# EAGLE library part F5504/5/6/7---RGZ48 (library MSP430F5xxx)
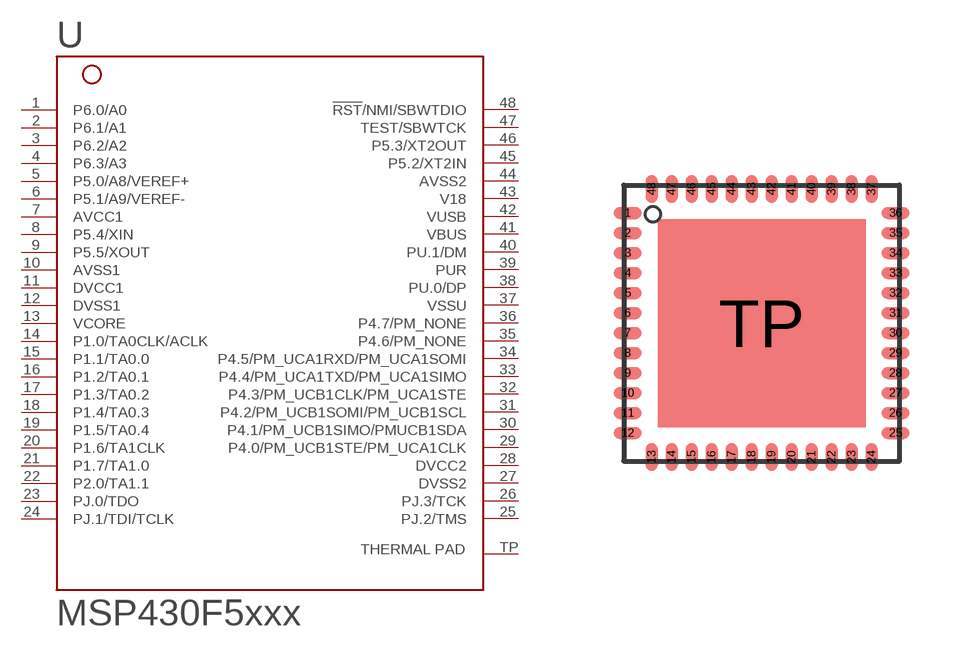
[diagram p1: symbol with the pads of RGZ48; footprint RGZ48]

Designator prefix -

## F5504/5/6/7---RGZ48  [RGZ48]
1  P6.0/A0
2  P6.1/A1
3  P6.2/A2
4  P6.3/A3
5  P5.0/A8/VEREF+
6  P5.1/A9/VEREF-
7  AVCC1  pwr
8  P5.4/XIN
9  P5.5/XOUT
10  AVSS1  pwr
11  DVCC1  pwr
12  DVSS1  pwr
13  VCORE  pwr
14  P1.0/TA0CLK/ACLK
15  P1.1/TA0.0
16  P1.2/TA0.1
17  P1.3/TA0.2
18  P1.4/TA0.3
19  P1.5/TA0.4
20  P1.6/TA1CLK
21  P1.7/TA1.0
22  P2.0/TA1.1
23  PJ.0/TDO
24  PJ.1/TDI/TCLK
25  PJ.2/TMS
26  PJ.3/TCK
27  DVSS2  pwr
28  DVCC2  pwr
29  P4.0/PM_UCB1STE/PM_UCA1CLK
30  P4.1/PM_UCB1SIMO/PMUCB1SDA
31  P4.2/PM_UCB1SOMI/PM_UCB1SCL
32  P4.3/PM_UCB1CLK/PM_UCA1STE
33  P4.4/PM_UCA1TXD/PM_UCA1SIMO
34  P4.5/PM_UCA1RXD/PM_UCA1SOMI
35  P4.6/PM_NONE
36  P4.7/PM_NONE
37  VSSU  pwr
38  PU.0/DP
39  PUR
40  PU.1/DM
41  VBUS  pwr
42  VUSB  pwr
43  V18  pwr
44  AVSS2  pwr
45  P5.2/XT2IN
46  P5.3/XT2OUT
47  TEST/SBWTCK
48  !RST!/NMI/SBWTDIO
TP  TP  pwr

## Footprint RGZ48 (pad centres in mm)
smd 0.7 x 0.3: 1 -3.35,2.75; 2 -3.35,2.25; 3 -3.35,1.75; 4 -3.35,1.25; 5 -3.35,0.75; 6 -3.35,0.25; 7 -3.35,-0.25; 8 -3.35,-0.75; 9 -3.35,-1.25; 10 -3.35,-1.75; 11 -3.35,-2.25; 12 -3.35,-2.75; 25 3.35,-2.75; 26 3.35,-2.25; 27 3.35,-1.75; 28 3.35,-1.25; 29 3.35,-0.75; 30 3.35,-0.25; 31 3.35,0.25; 32 3.35,0.75; 33 3.35,1.25; 34 3.35,1.75; 35 3.35,2.25; 36 3.35,2.75
smd 0.3 x 0.7: 13 -2.75,-3.35; 14 -2.25,-3.35; 15 -1.75,-3.35; 16 -1.25,-3.35; 17 -0.75,-3.35; 18 -0.25,-3.35; 19 0.25,-3.35; 20 0.75,-3.35; 21 1.25,-3.35; 22 1.75,-3.35; 23 2.25,-3.35; 24 2.75,-3.35; 37 2.75,3.35; 38 2.25,3.35; 39 1.75,3.35; 40 1.25,3.35; 41 0.75,3.35; 42 0.25,3.35; 43 -0.25,3.35; 44 -0.75,3.35; 45 -1.25,3.35; 46 -1.75,3.35; 47 -2.25,3.35; 48 -2.75,3.35
smd 5.2 x 5.2: TP 0,0